# EAGLE library part NRF24L01-BRKOUT90 (library nrf24l01-breakout)
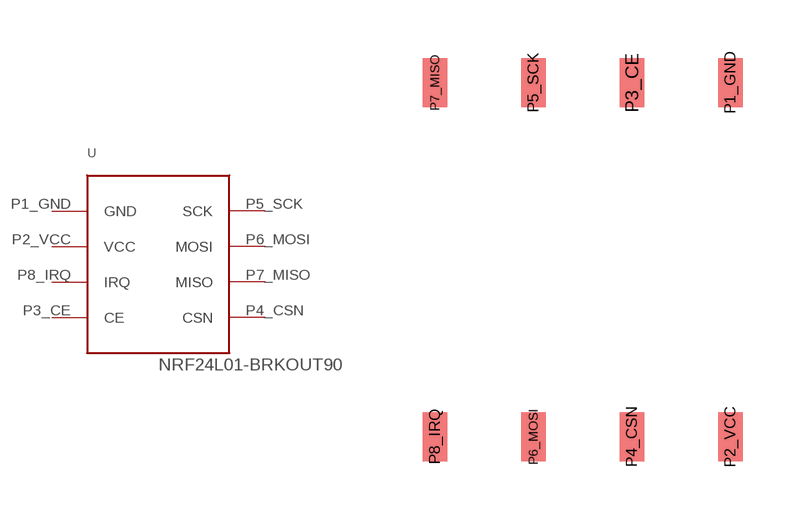
[diagram p1: symbol with the pads of NRF24L01-BRKOUT90; footprint NRF24L01-BRKOUT90]

Designator prefix -

## NRF24L01-BRKOUT90  [NRF24L01-BRKOUT90]
P1_GND  GND
P2_VCC  VCC
P3_CE  CE
P4_CSN  CSN
P5_SCK  SCK
P6_MOSI  MOSI
P7_MISO  MISO
P8_IRQ  IRQ

## Footprint NRF24L01-BRKOUT90 (pad centres in mm)
smd 0.635 x 1.27: P1_GND 3.937,4.572; P2_VCC 3.937,-4.573; P3_CE 1.397,4.572; P4_CSN 1.397,-4.572; P5_SCK -1.143,4.572; P6_MOSI -1.143,-4.572; P7_MISO -3.683,4.572; P8_IRQ -3.683,-4.572